# EAGLE library part 1X6_2.5MM (library rp2040)
1 x 6 2.5mm pitch: 2.54 mm Castellated Holes
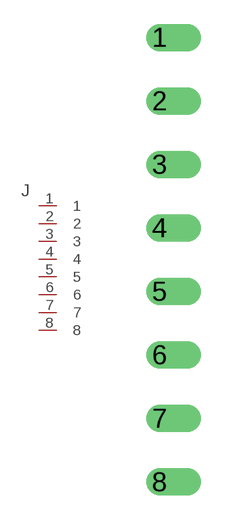
[diagram p1: symbol with the pads of 1X06_2.5MM; footprint 1X06_2.5MM]

Designator prefix J

## 1X6_2.5MM  [1X06_2.5MM]
1  1
2  2
3  3
4  4
5  5
6  6
7  7
8  8

## Footprint 1X06_2.5MM (pad centres in mm)
1 x 6 2.5mm pitch: 2.54 mm Castellated Holes
drill 0.6 offset: 1 0,8.89; 2 0,6.35; 3 0,3.81; 4 0,1.27; 5 0,-1.27; 6 0,-3.81; 7 0,-6.35; 8 0,-8.89